# EAGLE library part M5STACK-PINH (library m5stack-connector)
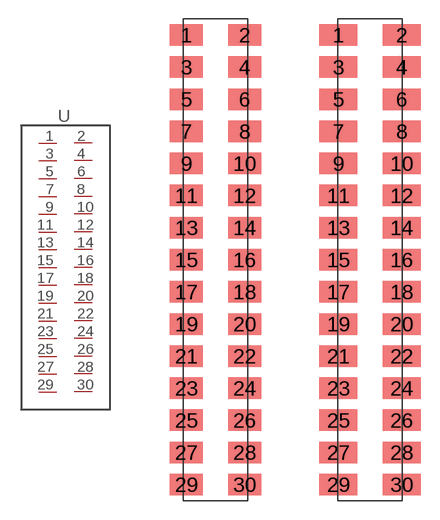
[diagram p0: symbol with the pads of PINH-2X15-SMD; footprints PINH-2X15-SMD, PINH-2X15-SMD_HANDSOLDER]

Designator prefix -

## M5STACK-PINH  [PINH-2X15-SMD]
1  1  pas
2  2  pas
3  3  pas
4  4  pas
5  5  pas
6  6  pas
7  7  pas
8  8  pas
9  9  pas
10  10  pas
11  11  pas
12  12  pas
13  13  pas
14  14  pas
15  15  pas
16  16  pas
17  17  pas
18  18  pas
19  19  pas
20  20  pas
21  21  pas
22  22  pas
23  23  pas
24  24  pas
25  25  pas
26  26  pas
27  27  pas
28  28  pas
29  29  pas
30  30  pas

## M5STACK-PINHHANDSOLDER  [PINH-2X15-SMD_HANDSOLDER]
Pads as for PINH-2X15-SMD

## Footprint PINH-2X15-SMD (pad centres in mm)
smd 2.6 x 1.7: 1 -2.3,17.78; 2 2.3,17.78; 3 -2.3,15.24; 4 2.3,15.24; 5 -2.3,12.7; 6 2.3,12.7; 7 -2.3,10.16; 8 2.3,10.16; 9 -2.3,7.62; 10 2.3,7.62; 11 -2.3,5.08; 12 2.3,5.08; 13 -2.3,2.54; 14 2.3,2.54; 15 -2.3,0; 16 2.3,0; 17 -2.3,-2.54; 18 2.3,-2.54; 19 -2.3,-5.08; 20 2.3,-5.08; 21 -2.3,-7.62; 22 2.3,-7.62; 23 -2.3,-10.16; 24 2.3,-10.16; 25 -2.3,-12.7; 26 2.3,-12.7; 27 -2.3,-15.24; 28 2.3,-15.24; 29 -2.3,-17.78; 30 2.3,-17.78

## Footprint PINH-2X15-SMD_HANDSOLDER (pad centres in mm)
smd 3 x 1.7: 1 -2.5,17.78; 2 2.5,17.78; 3 -2.5,15.24; 4 2.5,15.24; 5 -2.5,12.7; 6 2.5,12.7; 7 -2.5,10.16; 8 2.5,10.16; 9 -2.5,7.62; 10 2.5,7.62; 11 -2.5,5.08; 12 2.5,5.08; 13 -2.5,2.54; 14 2.5,2.54; 15 -2.5,0; 16 2.5,0; 17 -2.5,-2.54; 18 2.5,-2.54; 19 -2.5,-5.08; 20 2.5,-5.08; 21 -2.5,-7.62; 22 2.5,-7.62; 23 -2.5,-10.16; 24 2.5,-10.16; 25 -2.5,-12.7; 26 2.5,-12.7; 27 -2.5,-15.24; 28 2.5,-15.24; 29 -2.5,-17.78; 30 2.5,-17.78